# EAGLE library part FPF100X (library firefly)
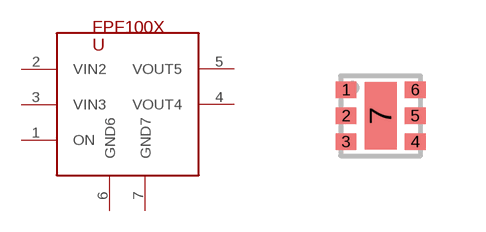
[diagram p1: symbol with the pads of MICROFET-2X2-6L; footprint MICROFET-2X2-6L]

Designator prefix -

## FPF100X  [MICROFET-2X2-6L]
1  ON
2  VIN2
3  VIN3
4  VOUT4
5  VOUT5
6  GND6
7  GND7

## Footprint MICROFET-2X2-6L (pad centres in mm)
smd 0.52 x 0.42: 1 -0.865,0.65; 2 -0.865,0; 3 -0.865,-0.65; 4 0.865,-0.65; 5 0.865,0; 6 0.865,0.65
smd 0.8 x 1.68: 7 0,0